# Altium footprint library Resistor_DIP.PcbLib: 69 footprints (part 4 of 5)
Each footprint in its own frame and in the unit in brackets; x right, y up, seen from the top. Pads: shape width x height; smd on the part's side, far side on the other; paste and mask are expansions set on the pad; w line width, h text height; cw(c..) or ccw(c..) is an arc to the next point about the centre after c.
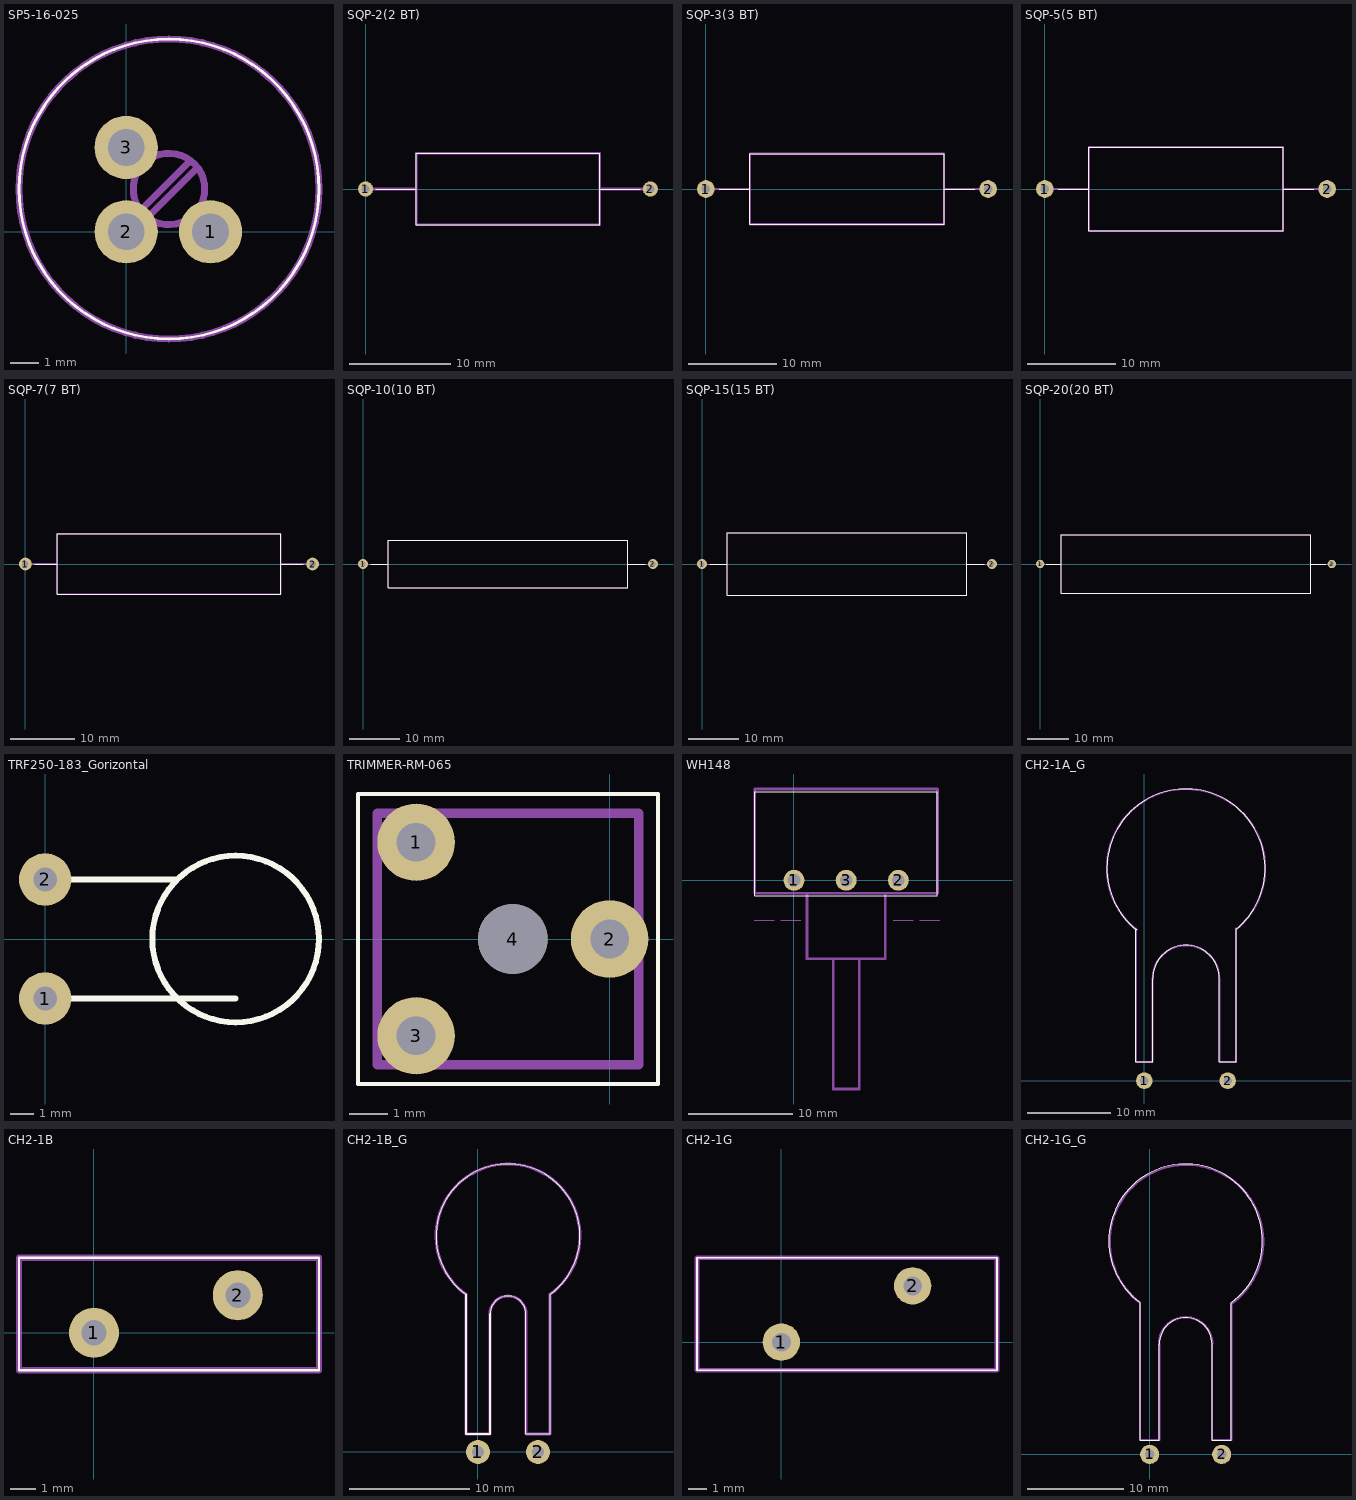
[diagram p3: the footprints below, top view; thin cyan lines are the x and y axes]

## SP5-16-025 [mm]
pads (3):
  round 2.25 hole 1.3: 1(3,0) 2(0,0) 3(0,3)
Top Overlay:
  circle w0.1: c1.524,1.524 r5.334
Mechanical 1:
  circle w0.25: c1.524,1.524 r5.334
  circle w0.25: c1.524,1.524 r1.27
  lines w0.25: 0.508,0.762 2.286,2.54 ; 0.762,0.508 2.54,2.286

## SQP-2(2 ВТ) [mm]
pads (2):
  round 1.5 hole 0.8: 1(0,0) 2(28,0)
Top Overlay:
  lines w0.1: 1,0 5,0 ; 23,0 27,0 ; 5,-3.5 23,-3.5 23,3.5 5,3.5 5,-3.5
Mechanical 1:
  lines w0.25: 0,0 5,0 ; 23,0 28,0 ; 5,-3.5 23,-3.5 23,3.5 5,3.5 5,-3.5

## SQP-3(3 ВТ) [mm]
pads (2):
  round 2 hole 1: 1(0,0) 2(32,0)
Top Overlay:
  lines w0.1: 1.5,0 5,0 ; 27,0 30.5,0 ; 5,-4 27,-4 27,4 5,4 5,-4
Mechanical 1:
  lines w0.25: 0,0 5,0 ; 27,0 32,0 ; 5,-4 27,-4 27,4 5,4 5,-4

## SQP-5(5 ВТ) [mm]
pads (2):
  round 2 hole 1: 1(0,0) 2(32,0)
Top Overlay:
  lines w0.1: 1.5,0 5,0 ; 27,0 30.5,0 ; 5,-4.75 27,-4.75 27,4.75 5,4.75 5,-4.75
Mechanical 1:
  lines w0.25: 0,0 5,0 ; 27,0 32,0 ; 5,-4.75 27,-4.75 27,4.75 5,4.75 5,-4.75

## SQP-7(7 ВТ) [mm]
pads (2):
  round 2 hole 1: 1(0,0) 2(45,0)
Top Overlay:
  lines w0.1: 1.5,0 5,0 ; 40,0 43.5,0 ; 5,-4.75 40,-4.75 40,4.75 5,4.75 5,-4.75
Mechanical 1:
  lines w0.25: 0,0 5,0 ; 40,0 45,0 ; 5,-4.75 40,-4.75 40,4.75 5,4.75 5,-4.75

## SQP-10(10 ВТ) [mm]
pads (2):
  round 2 hole 1: 1(0,0) 2(58,0)
Top Overlay:
  lines w0.1: 1.5,0 5,0 ; 53,0 56.5,0 ; 5,-4.75 53,-4.75 53,4.75 5,4.75 5,-4.75
Mechanical 1:
  lines w0.25: 0,0 5,0 ; 53,0 58,0 ; 5,-4.75 53,-4.75 53,4.75 5,4.75 5,-4.75

## SQP-15(15 ВТ) [mm]
pads (2):
  round 2 hole 1: 1(0,0) 2(58,0)
Top Overlay:
  lines w0.1: 1.5,0 5,0 ; 53,0 56.5,0 ; 5,-6.25 53,-6.25 53,6.25 5,6.25 5,-6.25
Mechanical 1:
  lines w0.25: 0,0 5,0 ; 53,0 58,0 ; 5,-6.25 53,-6.25 53,6.25 5,6.25 5,-6.25

## SQP-20(20 ВТ) [mm]
pads (2):
  round 2 hole 1: 1(0,0) 2(70,0)
Top Overlay:
  lines w0.1: 1.5,0 5,0 ; 65,0 68.5,0 ; 5,-7 65,-7 65,7 5,7 5,-7
Mechanical 1:
  lines w0.25: 0,0 5,0 ; 65,0 70,0 ; 5,-7 65,-7 65,7 5,7 5,-7

## TRF250-183_Gorizontal [mm]
pads (2):
  round 2.2 hole 1: 1(0,-2.5) 2(0,2.5)
Top Overlay:
  circle w0.25: c8,0 r3.5
  lines w0.25: 0,-2.5 8,-2.5 ; 0,2.5 5.5,2.5

## TRIMMER-RM-065 [mm]
pads (4):
  round 2 hole 1: 1(-5,2.5) 2(0,0) 3(-5,-2.5)
  round 1.8 hole 1.8 unplated: 4(-2.5,0)
Top Overlay:
  lines w0.1: -6.5,-3.75 1.25,-3.75 1.25,3.75 -6.5,3.75 -6.5,-3.75
Mechanical 1:
  lines w0.25: -6,-3.25 0.75,-3.25 0.75,3.25 -6,3.25 -6,-3.25

## WH148 [mm]
pads (3):
  round 2 hole 1.2: 1(0,0) 2(10,0) 3(5,0)
Top Overlay:
  lines w0.1: -3.75,-1.5 13.75,-1.5 13.75,8.5 -3.75,8.5 -3.75,-1.5
Mechanical 1:
  lines w0.1: -3.81,-3.81 -1.905,-3.81 ; -1.27,-3.81 0.635,-3.81 ; 9.525,-3.81 11.43,-3.81 ; 12.065,-3.81 13.97,-3.81
  lines w0.25: 1.25,-1.25 1.25,-7.5 8.75,-7.5 8.75,-1.25 ; 3.75,-7.5 3.75,-20 6.25,-20 6.25,-7.5 ; -3.75,-1.25 13.75,-1.25 13.75,8.75 -3.75,8.75 -3.75,-1.25

## СН2-1A_G [mm]
pads (2):
  round 2 hole 1: 1(0,0) 2(10,0)
Top Overlay:
  lines w0.1: -1,18.25 -1,2.25 1,2.25 1,12.25 cw(c5,12.25) 9,12.25 9,2.25 11,2.25 11,18.25 ; -0.94,18.086 cw(c5,25.5) 11.03,18.159
Mechanical 1:
  lines w0.25: -1,18.25 -1,2.25 1,2.25 1,12.25 cw(c5,12.25) 9,12.25 9,2.25 11,2.25 11,18.25 ; -0.94,18.086 cw(c5,25.5) 11.03,18.159

## СН2-1B [mm]
pads (2):
  round 2 hole 1: 1(0,0) 2(5.75,1.5)
Top Overlay:
  lines w0.1: -3,-1.5 9,-1.5 9,3 -3,3 -3,-1.5
Mechanical 1:
  lines w0.25: -3,-1.5 9,-1.5 9,3 -3,3 -3,-1.5

## СН2-1B_G [mm]
pads (2):
  round 2 hole 1: 1(0,0) 2(5,0)
Top Overlay:
  lines w0.1: -1.018,13.14 cw(c2.5,18) 6.01,13.134 ; 1,11.5 cw(c2.5,11.5) 4,11.5 4,1.5 6,1.5 6,13.15
  lines w0.15: -1,13.15 -1,1.5 1,1.5 1,11.5
Mechanical 1:
  lines w0.25: -1.018,13.14 cw(c2.5,18) 6.018,13.14 ; -1,13.15 -1,1.5 1,1.5 1,11.5 cw(c2.5,11.5) 4,11.5 4,1.5 6,1.5 6,13.15

## СН2-1G [mm]
pads (2):
  round 2 hole 1: 1(0,0) 2(7,3)
Top Overlay:
  lines w0.1: -4.5,-1.5 11.5,-1.5 11.5,4.5 -4.5,4.5 -4.5,-1.5
Mechanical 1:
  lines w0.25: -4.5,-1.5 11.5,-1.5 11.5,4.5 -4.5,4.5 -4.5,-1.5

## СН2-1G_G [mm]
pads (2):
  round 2 hole 1: 1(0,0) 2(7.5,0)
Top Overlay:
  lines w0.1: -1.053,15.853 cw(c3.75,22.25) 8.531,15.836 ; -1,15.75 -1,1.5 1,1.5 1,11.5 cw(c3.75,11.5) 6.5,11.5 6.5,1.5 8.5,1.5 8.5,15.75
Mechanical 1:
  lines w0.25: -1.034,15.82 cw(c3.825,22.175) 8.505,15.686 ; -1,15.75 -1,1.5 1,1.5 1,11.5 ; 0.975,11.5 cw(c3.75,11.5) 6.525,11.5 ; 6.5,11.5 6.5,1.5 8.5,1.5 8.5,15.75